# Altium integrated library UAV.IntLib: 42 symbols (part 3 of 4)
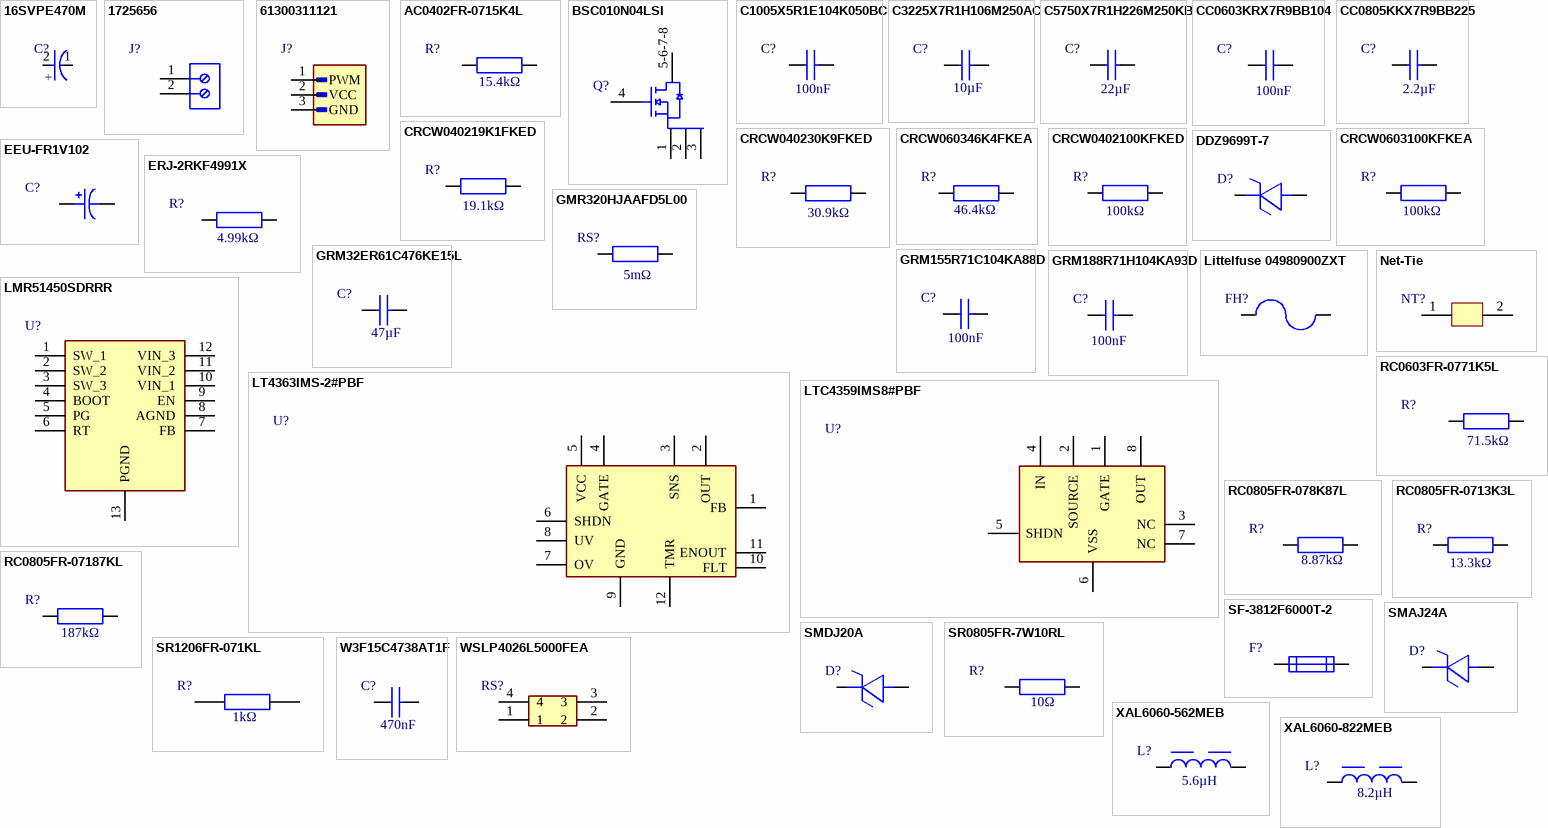
[diagram p3: symbols 16SVPE470M to XAL6060-822MEB]

## ERJ-2RKF4991X
designator R?  value 4.99kΩ  (hidden comment: ERJ-2RKF4991X)
Res Thick Film 0402 4.99K Ohm 1% 0.1W(1/10W) ±100ppm/C Pad SMD Automotive T/R; Manufacturer: Panasonic; Manufacturer Part Number: ERJ2RKF4991X; Manufacturer Lifecycle Status: ACTIVE; Part Series: Precision Thick Film Chip Resistors; Max Power Dissipation: 100mW; Temperature Coefficient: 100ppm/°C; Voltage Rating: 50V; Supplier: Farnell; Supplier Part Number: ERJ2RKF4991X; RoHS: Compliant; Category: Chip SMD Resistors; Stock: 140569; Pricing: 10=0,0178, 100=0,0146, 500=0,0095, 2500=0,0084, 5000=0,0074 (EUR); Case/Package: 0402; Case Code (Imperial): 0402; China RoHS: Non-Compliant; Composition: Thick Film; Contact Plating: Tin; Country of Origin: Japan, Mainland China; Depth: 500µm; Export Control Classification Number (ECCN) Code: EAR99; Features: Automotive AEC-Q200; Height: 350µm; Harmonized Tariff Schedule (HTS) Code: 8533.21.00.30; Introduction Date: 2004-02-02; Lead Free: Lead Free; Length: 1mm; Lifecycle Status: Production; Max Operating Temperature: 155°C; Military Standard: Not; Min Operating Temperature: -55°C; Mounting Technology: Surface Mount; Pins: 2; Number of Terminals: 2; Number of Terminations: 2; Packaging: Cut Tape; Power Rating: 100mW; Radiation Hardening: No; Ratings: AEC-Q200; REACH SVHC: Yes; Schedule B: 8533210045, 8533210045|8533210045|8533210045|8533210045|8533210045; Termination: SMD/SMT; Tolerance: 1%; Voltage Rating (DC): 50V; Weight: 793.786648µg; Width: 500µm; Working Voltage: 50V; ComponentLink1URL: https://sigma.octopart.com:443/138766958/technical_drawing/Panasonic-ERJ-2RKF4991X.pdf?src-supplier=Upverter; ComponentLink1Description: https://sigma.octopart.com:443/138766958/technical_drawing/Panasonic-ERJ-2RKF4991X.pdf?src-supplier=Upverter; ComponentLink2URL: https://datasheet.octopart.com:443/ERJ2RKF4991X-Panasonic-datasheet-82288794.pdf?src-supplier=Upverter; ComponentLink2Description: https://datasheet.octopart.com:443/ERJ2RKF4991X-Panasonic-datasheet-82288794.pdf?src-supplier=Upverter; ComponentLink3URL: https://datasheet.octopart.com:443/ERJ2RKF4991X-Panasonic-datasheet-13266541.pdf?src-supplier=RS+(Formerly+Allied+Electronics); ComponentLink3Description: https://datasheet.octopart.com:443/ERJ2RKF4991X-Panasonic-datasheet-13266541.pdf?src-supplier=RS+(Formerly+Allied+Electronics); ComponentLink4URL: https://datasheet.octopart.com:443/ERJ2RKF4991X-Panasonic-datasheet-48891056.pdf?src-supplier=Newark; ComponentLink4Description: https://datasheet.octopart.com:443/ERJ2RKF4991X-Panasonic-datasheet-48891056.pdf?src-supplier=Newark; ComponentLink5URL: https://datasheet.octopart.com:443/ERJ2RKF4991X-Panasonic-datasheet-136608610.pdf?src-supplier=Newark; ComponentLink5Description: https://datasheet.octopart.com:443/ERJ2RKF4991X-Panasonic-datasheet-136608610.pdf?src-supplier=Newark; ComponentLink6URL: https://datasheet.octopart.com:443/ERJ2RKF4991X-Panasonic-datasheet-10025800.pdf?src-supplier=Future+Electronics; ComponentLink6Description: https://datasheet.octopart.com:443/ERJ2RKF4991X-Panasonic-datasheet-10025800.pdf?src-supplier=Future+Electronics; ComponentLink7URL: https://datasheet.octopart.com:443/ERJ2RKF4991X-Panasonic-datasheet-8853621.pdf?src-supplier=Future+Electronics; ComponentLink7Description: https://datasheet.octopart.com:443/ERJ2RKF4991X-Panasonic-datasheet-8853621.pdf?src-supplier=Future+Electronics; ComponentLink8URL: https://datasheet.octopart.com:443/ERJ2RKF4991X-Panasonic-datasheet-5313456.pdf?src-supplier=Future+Electronics; ComponentLink8Description: https://datasheet.octopart.com:443/ERJ2RKF4991X-Panasonic-datasheet-5313456.pdf?src-supplier=Future+Electronics; ComponentLink9URL: https://datasheet.octopart.com:443/ERJ-2RKF4991X-Panasonic-datasheet-154766169.pdf?src-supplier=Master+Electronics; ComponentLink9Description: https://datasheet.octopart.com:443/ERJ-2RKF4991X-Panasonic-datasheet-154766169.pdf?src-supplier=Master+Electronics; ComponentLink10URL: https://datasheet.octopart.com:443/ERJ2RKF4991X-Panasonic-datasheet-188592431.pdf?src-supplier=TME; ComponentLink10Description: https://datasheet.octopart.com:443/ERJ2RKF4991X-Panasonic-datasheet-188592431.pdf?src-supplier=TME; ComponentLink11URL: https://datasheet.octopart.com:443/ERJ2RKF4991X-Panasonic-datasheet-164353789.pdf?src-supplier=TME; ComponentLink11Description: https://datasheet.octopart.com:443/ERJ2RKF4991X-Panasonic-datasheet-164353789.pdf?src-supplier=TME; ComponentLink12URL: https://datasheet.octopart.com/ERJ2RKF4991X-Panasonic-datasheet-78375410.pdf; ComponentLink12Description: https://datasheet.octopart.com/ERJ2RKF4991X-Panasonic-datasheet-78375410.pdf; ComponentLink13URL: https://datasheet.octopart.com/Precision-Thick-Film-Chip-Resistors-Panasonic-datasheet-family-106.pdf; ComponentLink13Description: https://datasheet.octopart.com/Precision-Thick-Film-Chip-Resistors-Panasonic-datasheet-family-106.pdf; ComponentLink14URL: https://datasheet.octopart.com:443/ERJ-2RKF4991X-Panasonic---ECG-datasheet-15994758.pdf?src-supplier=Farnell; ComponentLink14Description: https://datasheet.octopart.com:443/ERJ-2RKF4991X-Panasonic---ECG-datasheet-15994758.pdf?src-supplier=Farnell; ComponentLink15URL: https://datasheet.octopart.com:443/ERJ-2RKF4991X-Panasonic-datasheet-11542829.pdf?src-supplier=Arrow+Electronics; ComponentLink15Description: https://datasheet.octopart.com:443/ERJ-2RKF4991X-Panasonic-datasheet-11542829.pdf?src-supplier=Arrow+Electronics; ComponentLink16URL: https://datasheet.octopart.com:443/ERJ-2RKF4991X-Panasonic-datasheet-118621.pdf?src-supplier=DigiKey; ComponentLink16Description: https://datasheet.octopart.com:443/ERJ-2RKF4991X-Panasonic-datasheet-118621.pdf?src-supplier=DigiKey; ComponentLink17URL: https://datasheet.octopart.com:443/ERJ-2RKF4991X-Panasonic-datasheet-41391857.pdf?src-supplier=Electro+Sonic; ComponentLink17Description: https://datasheet.octopart.com:443/ERJ-2RKF4991X-Panasonic-datasheet-41391857.pdf?src-supplier=Electro+Sonic
footprint RES 0402
pins: 1, 2

## GMR320HJAAFD5L00
designator RS?  value 5mΩ  (hidden comment: GMR320HJAAFD5L00)
Res Metal Plate 2817 0.005 Ohm 1% 7W 0ppm/C to 25ppm/C Pad SMD Automotive T/R; Manufacturer: ROHM; Power Rating: 10W; Ratings: AEC-Q200, IATF 16949; Temperature Coefficient: 25ppm/°C; Supplier: Arrow Electronics; Supplier Part Number: GMR320HJAAFD5L00; Manufacturer Part Number: GMR320HJAAFD5L00; RoHS: Compliant; Category: Chip SMD Resistors; Stock: 400; Pricing: 1=3,6047, 10=2,4242, 25=2,1032, 50=1,9022, 100=1,731, 250=1,5438 (USD); China RoHS: Non-Compliant; Export Control Classification Number (ECCN) Code: EAR99; Height: 400µm; Harmonized Tariff Schedule (HTS) Code: 8533.21.00.30; Introduction Date: 2020-02-06; Length: 7.1mm; Lifecycle Status: Production; Max Operating Temperature: 170°C; Min Operating Temperature: -65°C; Mounting Technology: Surface Mount; Number of Terminals: 2; REACH SVHC: Yes; Tolerance: 1%; Width: 4.2mm; ComponentLink1URL: https://datasheet.octopart.com:443/GMR320HJAAFD5L00-ROHM-datasheet-182147625.pdf?src-supplier=IHS; ComponentLink1Description: https://datasheet.octopart.com:443/GMR320HJAAFD5L00-ROHM-datasheet-182147625.pdf?src-supplier=IHS
footprint GMR320HJAAFD5L00
pins: 1, 2

## GRM32ER61C476KE15L
designator C?  value 47µF  (hidden comment: GRM32ER61C476KE15L)
16V 47uF X5R ±10% 1210 Multilayer Ceramic Capacitors MLCC - SMD/SMT ROHS; Manufacturer: Murata; Manufacturer Lifecycle Status: NRND; Manufacturer Package Identifier: 1210 (3225 Metric); Supplier: Future Electronics; Supplier Part Number: GRM32ER61C476KE15L; Manufacturer Part Number: GRM32ER61C476KE15L; RoHS: Compliant; Category: Ceramic Capacitors; Stock: 188000; Pricing: 1000=0,0948, 3000=0,0921, 4000=0,0914, 10000=0,0893, 15000=0,0872 (USD); Case/Package: 1210; Case Code (Imperial): 1210; Case Code (Metric): 3225; Depth: 2.5mm; Dielectric: X5R; Dielectric Material: Ceramic; Height: 2.5mm; Lead Free: Lead Free; Length: 3.2mm; Lifecycle Status: NRND; Material: Ceramic; Max Operating Temperature: 85°C; Min Operating Temperature: -55°C; Mounting Technology: Surface Mount; Pins: 2; Number of Terminals: 2; Radiation Hardening: No; REACH SVHC: Yes; Schedule B: 8532240020, 8532240020|8532240020, 8532240020|8532240020|8532240020, 8532240020|8532240020|8532240020|8532240020; Termination: SMD/SMT; Thickness: 2.5mm; Tolerance: 10%; Voltage: 16V; Voltage Rating: 16V; Voltage Rating (DC): 16V; Width: 2.5mm; ComponentLink1URL: https://datasheet.octopart.com:443/GRM32ER61C476KE15L-Murata-datasheet-11893327.pdf?src-supplier=_legacy+Avnet; ComponentLink1Description: https://datasheet.octopart.com:443/GRM32ER61C476KE15L-Murata-datasheet-11893327.pdf?src-supplier=_legacy+Avnet; ComponentLink2URL: https://datasheet.octopart.com:443/GRM32ER61C476KE15L-Murata-datasheet-62317406.pdf?src-supplier=element14+APAC; ComponentLink2Description: https://datasheet.octopart.com:443/GRM32ER61C476KE15L-Murata-datasheet-62317406.pdf?src-supplier=element14+APAC; ComponentLink3URL: https://datasheet.octopart.com:443/GRM32ER61C476KE15L-Murata-datasheet-17853190.pdf?src-supplier=element14+APAC; ComponentLink3Description: https://datasheet.octopart.com:443/GRM32ER61C476KE15L-Murata-datasheet-17853190.pdf?src-supplier=element14+APAC; ComponentLink4URL: https://datasheet.octopart.com:443/GRM32ER61C476KE15L-Murata-datasheet-8817987.pdf?src-supplier=Newark; ComponentLink4Description: https://datasheet.octopart.com:443/GRM32ER61C476KE15L-Murata-datasheet-8817987.pdf?src-supplier=Newark; ComponentLink5URL: https://datasheet.octopart.com:443/GRM32ER61C476KE15L-Murata-datasheet-14403028.pdf?src-supplier=Future+Electronics; ComponentLink5Description: https://datasheet.octopart.com:443/GRM32ER61C476KE15L-Murata-datasheet-14403028.pdf?src-supplier=Future+Electronics; ComponentLink6URL: https://datasheet.octopart.com:443/GRM32ER61C476KE15L-Murata-datasheet-22122223.pdf?src-supplier=Future+Electronics; ComponentLink6Description: https://datasheet.octopart.com:443/GRM32ER61C476KE15L-Murata-datasheet-22122223.pdf?src-supplier=Future+Electronics; ComponentLink7URL: https://datasheet.octopart.com:443/GRM32ER61C476KE15L-Murata-datasheet-44109711.pdf?src-supplier=Future+Electronics; ComponentLink7Description: https://datasheet.octopart.com:443/GRM32ER61C476KE15L-Murata-datasheet-44109711.pdf?src-supplier=Future+Electronics; ComponentLink8URL: https://datasheet.octopart.com:443/GRM32ER61C476KE15L-Murata-datasheet-165579666.pdf?src-supplier=TME; ComponentLink8Description: https://datasheet.octopart.com:443/GRM32ER61C476KE15L-Murata-datasheet-165579666.pdf?src-supplier=TME; ComponentLink9URL: https://datasheet.octopart.com:443/GRM32ER61C476KE15L-Murata-datasheet-59876780.pdf?src-supplier=TME; ComponentLink9Description: https://datasheet.octopart.com:443/GRM32ER61C476KE15L-Murata-datasheet-59876780.pdf?src-supplier=TME; ComponentLink10URL: https://datasheet.octopart.com:443/GRM32ER61C476KE15L-Murata-datasheet-140709622.pdf?src-supplier=Ciiva; ComponentLink10Description: https://datasheet.octopart.com:443/GRM32ER61C476KE15L-Murata-datasheet-140709622.pdf?src-supplier=Ciiva; ComponentLink11URL: https://datasheet.octopart.com:443/GRM32ER61C476KE15L-Murata-datasheet-138747025.pdf?src-supplier=Ciiva; ComponentLink11Description: https://datasheet.octopart.com:443/GRM32ER61C476KE15L-Murata-datasheet-138747025.pdf?src-supplier=Ciiva; ComponentLink12URL: https://datasheet.octopart.com:443/GRM32ER61C476KE15L-Murata-datasheet-102370999.pdf?src-supplier=HQonline; ComponentLink12Description: https://datasheet.octopart.com:443/GRM32ER61C476KE15L-Murata-datasheet-102370999.pdf?src-supplier=HQonline; ComponentLink13URL: https://datasheet.octopart.com:443/GRM32ER61C476KE15L-Murata-datasheet-14047368.pdf?src-supplier=iiiC; ComponentLink13Description: https://datasheet.octopart.com:443/GRM32ER61C476KE15L-Murata-datasheet-14047368.pdf?src-supplier=iiiC; ComponentLink14URL: https://datasheet.octopart.com/GRM32ER61C476KE15L-Murata-datasheet-12515295.pdf; ComponentLink14Description: https://datasheet.octopart.com/GRM32ER61C476KE15L-Murata-datasheet-12515295.pdf; ComponentLink15URL: https://datasheet.octopart.com/GRM32ER61C476KE15L-Murata-datasheet-12510076.pdf; ComponentLink15Description: https://datasheet.octopart.com/GRM32ER61C476KE15L-Murata-datasheet-12510076.pdf; ComponentLink16URL: https://datasheet.octopart.com/GRM32ER61C476KE15L-Murata-datasheet-11978611.pdf; ComponentLink16Description: https://datasheet.octopart.com/GRM32ER61C476KE15L-Murata-datasheet-11978611.pdf; ComponentLink17URL: https://datasheet.octopart.com/GRM32ER61C476KE15L-Murata-datasheet-10025737.pdf; ComponentLink17Description: https://datasheet.octopart.com/GRM32ER61C476KE15L-Murata-datasheet-10025737.pdf; ComponentLink18URL: https://datasheet.octopart.com/GRM32ER61C476KE15L-Murata-datasheet-8819587.pdf; ComponentLink18Description: https://datasheet.octopart.com/GRM32ER61C476KE15L-Murata-datasheet-8819587.pdf; ComponentLink19URL: https://datasheet.octopart.com:443/GRM32ER61C476KE15L.-Murata-datasheet-5332913.pdf?src-supplier=Farnell; ComponentLink19Description: https://datasheet.octopart.com:443/GRM32ER61C476KE15L.-Murata-datasheet-5332913.pdf?src-supplier=Farnell; ComponentLink20URL: http://sigma.octopart.com:80/reach_statement/Murata-company-16.pdf?src-supplier=Compliance+Statements; ComponentLink20Description: http://sigma.octopart.com:80/reach_statement/Murata-company-16.pdf?src-supplier=Compliance+Statements
footprint CAP 1210
pins: 1, 2

## GRM155R71C104KA88D
designator C?  value 100nF  (hidden comment: GRM155R71C104KA88D)
16V 100nF X7R ±10% 0402 Multilayer Ceramic Capacitors MLCC - SMD/SMT ROHS; Manufacturer: Murata; Manufacturer Lifecycle Status: NRND; Insulation Resistance: 10GΩ; Supplier: Future Electronics; Supplier Part Number: GRM155R71C104KA88D; Manufacturer Part Number: GRM155R71C104KA88D; RoHS: Compliant; Category: Ceramic Capacitors; Stock: 9240000; Pricing: 20000=0,001, 50000=0,001, 200000=0,0009, 500000=0,0009, 1250000=0,0009 (USD); Case/Package: 0402; Case Code (Imperial): 0402; Case Code (Metric): 1005; Country of Origin: Japan, Mainland China, Philippines, Singapore, Thailand; Depth: 500µm; Dielectric: X7R; Dielectric Material: Ceramic; Export Control Classification Number (ECCN) Code: EAR99; Height: 500µm; Harmonized Tariff Schedule (HTS) Code: 8532.24.00.20; Introduction Date: 2004-11-19; Lead Free: Lead Free; Length: 1mm; Lifecycle Status: NRND; Material: Ceramic; Max Operating Temperature: 125°C; Min Operating Temperature: -55°C; Mounting Technology: Surface Mount; Pins: 2; Number of Terminals: 2; Packaging: Cut Tape; Radiation Hardening: No; REACH SVHC: Yes; Schedule B: 8532240020, 8532240020|8532240020|8532240020|8532240020|8532240020|8532240020|8532240020|8532240020|8532240020|8532240020|8532240020|8532240020|8532240020, 8532240020|8532240020|8532240020|8532240020|8532240020|8532240020|8532240020|8532240020|8532240020|8532240020|8532240020|8532240020|8532240020|8532240020, 8532240020|8532240020|8532240020|8532240020|8532240020|8532240020|8532240020|8532240020|8532240020|8532240020|8532240020|8532240020|8532240020|8532240020|8532240020; Termination: SMD/SMT; Thickness: 500µm; Tolerance: 10%; Voltage: 16V; Voltage Rating: 16V; Voltage Rating (DC): 16V; Width: 500µm; ComponentLink1URL: https://datasheet.octopart.com:443/GRM155R71C104KA88D-Murata-datasheet-6387203.pdf?src-supplier=Upverter; ComponentLink1Description: https://datasheet.octopart.com:443/GRM155R71C104KA88D-Murata-datasheet-6387203.pdf?src-supplier=Upverter; ComponentLink2URL: https://datasheet.octopart.com:443/GRM155R71C104KA88D-Murata-datasheet-501912.pdf?src-supplier=Farnell; ComponentLink2Description: https://datasheet.octopart.com:443/GRM155R71C104KA88D-Murata-datasheet-501912.pdf?src-supplier=Farnell; ComponentLink3URL: https://datasheet.octopart.com:443/GRM155R71C104KA88D-Murata-datasheet-62320226.pdf?src-supplier=Farnell; ComponentLink3Description: https://datasheet.octopart.com:443/GRM155R71C104KA88D-Murata-datasheet-62320226.pdf?src-supplier=Farnell; ComponentLink4URL: https://datasheet.octopart.com:443/GRM155R71C104KA88D-Murata-datasheet-514334.pdf?src-supplier=Farnell; ComponentLink4Description: https://datasheet.octopart.com:443/GRM155R71C104KA88D-Murata-datasheet-514334.pdf?src-supplier=Farnell; ComponentLink5URL: https://datasheet.octopart.com:443/GRM155R71C104KA88D-Murata-datasheet-165579666.pdf?src-supplier=TME; ComponentLink5Description: https://datasheet.octopart.com:443/GRM155R71C104KA88D-Murata-datasheet-165579666.pdf?src-supplier=TME; ComponentLink6URL: https://datasheet.octopart.com:443/GRM155R71C104KA88D-Murata-datasheet-81455578.pdf?src-supplier=TME; ComponentLink6Description: https://datasheet.octopart.com:443/GRM155R71C104KA88D-Murata-datasheet-81455578.pdf?src-supplier=TME; ComponentLink7URL: https://datasheet.octopart.com:443/GRM155R71C104KA88D-Murata-datasheet-59876780.pdf?src-supplier=TME; ComponentLink7Description: https://datasheet.octopart.com:443/GRM155R71C104KA88D-Murata-datasheet-59876780.pdf?src-supplier=TME; ComponentLink8URL: https://datasheet.octopart.com:443/GRM155R71C104KA88D-Murata-datasheet-141266224.pdf?src-supplier=Ciiva; ComponentLink8Description: https://datasheet.octopart.com:443/GRM155R71C104KA88D-Murata-datasheet-141266224.pdf?src-supplier=Ciiva; ComponentLink9URL: https://datasheet.octopart.com:443/GRM155R71C104KA88D-Murata-datasheet-140690972.pdf?src-supplier=Ciiva; ComponentLink9Description: https://datasheet.octopart.com:443/GRM155R71C104KA88D-Murata-datasheet-140690972.pdf?src-supplier=Ciiva; ComponentLink10URL: https://datasheet.octopart.com:443/GRM155R71C104KA88D-Murata-datasheet-138740890.pdf?src-supplier=Ciiva; ComponentLink10Description: https://datasheet.octopart.com:443/GRM155R71C104KA88D-Murata-datasheet-138740890.pdf?src-supplier=Ciiva; ComponentLink11URL: https://datasheet.octopart.com:443/GRM155R71C104KA88D-Murata-datasheet-120101189.pdf?src-supplier=Megastar; ComponentLink11Description: https://datasheet.octopart.com:443/GRM155R71C104KA88D-Murata-datasheet-120101189.pdf?src-supplier=Megastar; ComponentLink12URL: https://datasheet.octopart.com:443/GRM155R71C104KA88D-Murata-datasheet-96971104.pdf?src-supplier=Future+Electronics; ComponentLink12Description: https://datasheet.octopart.com:443/GRM155R71C104KA88D-Murata-datasheet-96971104.pdf?src-supplier=Future+Electronics; ComponentLink13URL: https://datasheet.octopart.com:443/GRM155R71C104KA88D-Murata-datasheet-22122223.pdf?src-supplier=Future+Electronics; ComponentLink13Description: https://datasheet.octopart.com:443/GRM155R71C104KA88D-Murata-datasheet-22122223.pdf?src-supplier=Future+Electronics; ComponentLink14URL: https://datasheet.octopart.com:443/GRM155R71C104KA88D-Murata-datasheet-14400564.pdf?src-supplier=Future+Electronics; ComponentLink14Description: https://datasheet.octopart.com:443/GRM155R71C104KA88D-Murata-datasheet-14400564.pdf?src-supplier=Future+Electronics; ComponentLink15URL: https://datasheet.octopart.com:443/GRM155R71C104KA88D-Murata-datasheet-44106293.pdf?src-supplier=Future+Electronics; ComponentLink15Description: https://datasheet.octopart.com:443/GRM155R71C104KA88D-Murata-datasheet-44106293.pdf?src-supplier=Future+Electronics; ComponentLink16URL: https://datasheet.octopart.com/GRM155R71C104KA88D-Murata-datasheet-12515295.pdf; ComponentLink16Description: https://datasheet.octopart.com/GRM155R71C104KA88D-Murata-datasheet-12515295.pdf; ComponentLink17URL: https://datasheet.octopart.com/GRM155R71C104KA88D-Murata-datasheet-12510076.pdf; ComponentLink17Description: https://datasheet.octopart.com/GRM155R71C104KA88D-Murata-datasheet-12510076.pdf; ComponentLink18URL: https://datasheet.octopart.com/GRM155R71C104KA88D-Murata-datasheet-11978611.pdf; ComponentLink18Description: https://datasheet.octopart.com/GRM155R71C104KA88D-Murata-datasheet-11978611.pdf; ComponentLink19URL: https://datasheet.octopart.com/GRM155R71C104KA88D-Murata-datasheet-10025737.pdf; ComponentLink19Description: https://datasheet.octopart.com/GRM155R71C104KA88D-Murata-datasheet-10025737.pdf; ComponentLink20URL: https://datasheet.octopart.com/GRM155R71C104KA88D-Murata-datasheet-8819587.pdf; ComponentLink20Description: https://datasheet.octopart.com/GRM155R71C104KA88D-Murata-datasheet-8819587.pdf; ComponentLink21URL: https://datasheet.octopart.com/GRM155R71C104KA88D-Murata-datasheet-12555248.pdf; ComponentLink21Description: https://datasheet.octopart.com/GRM155R71C104KA88D-Murata-datasheet-12555248.pdf; ComponentLink22URL: https://datasheet.octopart.com:443/GRM155R71C104KA88D-Murata-datasheet-11864723.pdf?src-supplier=Arrow+Electronics; ComponentLink22Description: https://datasheet.octopart.com:443/GRM155R71C104KA88D-Murata-datasheet-11864723.pdf?src-supplier=Arrow+Electronics; ComponentLink23URL: https://datasheet.octopart.com:443/GRM155R71C104KA88D-Murata-datasheet-148211.pdf?src-supplier=Garrett; ComponentLink23Description: https://datasheet.octopart.com:443/GRM155R71C104KA88D-Murata-datasheet-148211.pdf?src-supplier=Garrett; ComponentLink24URL: https://datasheet.octopart.com:443/GRM155R71C104KA88D-Murata-datasheet-118811.pdf?src-supplier=DigiKey; ComponentLink24Description: https://datasheet.octopart.com:443/GRM155R71C104KA88D-Murata-datasheet-118811.pdf?src-supplier=DigiKey; ComponentLink25URL: https://datasheet.octopart.com:443/GRM155R71C104KA88D-Murata-datasheet-38265814.pdf?src-supplier=Newark; ComponentLink25Description: https://datasheet.octopart.com:443/GRM155R71C104KA88D-Murata-datasheet-38265814.pdf?src-supplier=Newark; ComponentLink26URL: http://sigma.octopart.com:80/reach_statement/Murata-company-16.pdf?src-supplier=Compliance+Statements; ComponentLink26Description: http://sigma.octopart.com:80/reach_statement/Murata-company-16.pdf?src-supplier=Compliance+Statements
footprint CAP 0402
pins: 1, 2

## GRM188R71H104KA93D
designator C?  value 100nF  (hidden comment: GRM188R71H104KA93D)
Multilayer Ceramic Capacitors MLCC Surface Mount 0603 0.1uF 50 Volts X7R 10%; Manufacturer: Murata; Manufacturer Lifecycle Status: TO BE DISCONTINUED; Insulation Resistance: 10GΩ; Voltage: 50V; Supplier: Farnell; Supplier Part Number: GRM188R71H104KA93D; Manufacturer Part Number: GRM188R71H104KA93D; RoHS: Compliant; Category: Ceramic Capacitors; Stock: 13958; Pricing: 10=0,0157, 100=0,0148, 500=0,0139, 1000=0,0114, 2000=0,0104, 4000=0,0082 (EUR); Case/Package: 0603; Case Code (Imperial): 0603; Case Code (Metric): 1608; Contact Plating: Tin; Country of Origin: Philippines; Depth: 800µm; Dielectric: X7R; Dielectric Material: Ceramic; Export Control Classification Number (ECCN) Code: EAR99; Height: 800µm; Harmonized Tariff Schedule (HTS) Code: 8532.24.00.20; Introduction Date: 2004-11-19; Lead Free: Lead Free; Length: 1.6mm; Lifecycle Status: EOL; LTB Date: 2019-03-31; LTD Date: 2020-03-31; Material: Ceramic; Max Operating Temperature: 125°C; Min Operating Temperature: -55°C; Mounting Technology: Surface Mount; Pins: 2; Number of Terminals: 2; Packaging: Cut Tape; Radiation Hardening: No; REACH SVHC: Yes; Termination: SMD/SMT; Thickness: 800µm; Tolerance: 10%; Voltage Rating: 50V; Voltage Rating (DC): 50V; Width: 800µm; ComponentLink1URL: https://datasheet.octopart.com:443/GRM188R71H104KA93D-Murata-datasheet-8107223.pdf?src-supplier=_legacy+Avnet; ComponentLink1Description: https://datasheet.octopart.com:443/GRM188R71H104KA93D-Murata-datasheet-8107223.pdf?src-supplier=_legacy+Avnet; ComponentLink2URL: https://datasheet.octopart.com:443/GRM188R71H104KA93D-Murata-datasheet-501912.pdf?src-supplier=Farnell; ComponentLink2Description: https://datasheet.octopart.com:443/GRM188R71H104KA93D-Murata-datasheet-501912.pdf?src-supplier=Farnell; ComponentLink3URL: https://datasheet.octopart.com:443/GRM188R71H104KA93D-Murata-datasheet-62320240.pdf?src-supplier=Farnell; ComponentLink3Description: https://datasheet.octopart.com:443/GRM188R71H104KA93D-Murata-datasheet-62320240.pdf?src-supplier=Farnell; ComponentLink4URL: https://datasheet.octopart.com:443/GRM188R71H104KA93D-Murata-datasheet-514334.pdf?src-supplier=Farnell; ComponentLink4Description: https://datasheet.octopart.com:443/GRM188R71H104KA93D-Murata-datasheet-514334.pdf?src-supplier=Farnell; ComponentLink5URL: https://datasheet.octopart.com:443/GRM188R71H104KA93D-Murata-datasheet-165579666.pdf?src-supplier=TME; ComponentLink5Description: https://datasheet.octopart.com:443/GRM188R71H104KA93D-Murata-datasheet-165579666.pdf?src-supplier=TME; ComponentLink6URL: https://datasheet.octopart.com:443/GRM188R71H104KA93D-Murata-datasheet-59876780.pdf?src-supplier=TME; ComponentLink6Description: https://datasheet.octopart.com:443/GRM188R71H104KA93D-Murata-datasheet-59876780.pdf?src-supplier=TME; ComponentLink7URL: https://datasheet.octopart.com:443/GRM188R71H104KA93D-Murata-datasheet-140705634.pdf?src-supplier=Ciiva; ComponentLink7Description: https://datasheet.octopart.com:443/GRM188R71H104KA93D-Murata-datasheet-140705634.pdf?src-supplier=Ciiva; ComponentLink8URL: https://datasheet.octopart.com:443/GRM188R71H104KA93D-Murata-datasheet-138743176.pdf?src-supplier=Ciiva; ComponentLink8Description: https://datasheet.octopart.com:443/GRM188R71H104KA93D-Murata-datasheet-138743176.pdf?src-supplier=Ciiva; ComponentLink9URL: https://datasheet.octopart.com:443/GRM188R71H104KA93D-Murata-datasheet-22122223.pdf?src-supplier=Future+Electronics; ComponentLink9Description: https://datasheet.octopart.com:443/GRM188R71H104KA93D-Murata-datasheet-22122223.pdf?src-supplier=Future+Electronics; ComponentLink10URL: https://datasheet.octopart.com:443/GRM188R71H104KA93D-Murata-datasheet-14401171.pdf?src-supplier=Future+Electronics; ComponentLink10Description: https://datasheet.octopart.com:443/GRM188R71H104KA93D-Murata-datasheet-14401171.pdf?src-supplier=Future+Electronics; ComponentLink11URL: https://datasheet.octopart.com:443/GRM188R71H104KA93D-Murata-datasheet-44107904.pdf?src-supplier=Future+Electronics; ComponentLink11Description: https://datasheet.octopart.com:443/GRM188R71H104KA93D-Murata-datasheet-44107904.pdf?src-supplier=Future+Electronics; ComponentLink12URL: https://datasheet.octopart.com/GRM188R71H104KA93D-Murata-datasheet-12515295.pdf; ComponentLink12Description: https://datasheet.octopart.com/GRM188R71H104KA93D-Murata-datasheet-12515295.pdf; ComponentLink13URL: https://datasheet.octopart.com/GRM188R71H104KA93D-Murata-datasheet-12510076.pdf; ComponentLink13Description: https://datasheet.octopart.com/GRM188R71H104KA93D-Murata-datasheet-12510076.pdf; ComponentLink14URL: https://datasheet.octopart.com/GRM188R71H104KA93D-Murata-datasheet-11978611.pdf; ComponentLink14Description: https://datasheet.octopart.com/GRM188R71H104KA93D-Murata-datasheet-11978611.pdf; ComponentLink15URL: https://datasheet.octopart.com/GRM188R71H104KA93D-Murata-datasheet-10025737.pdf; ComponentLink15Description: https://datasheet.octopart.com/GRM188R71H104KA93D-Murata-datasheet-10025737.pdf; ComponentLink16URL: https://datasheet.octopart.com/GRM188R71H104KA93D-Murata-datasheet-8819587.pdf; ComponentLink16Description: https://datasheet.octopart.com/GRM188R71H104KA93D-Murata-datasheet-8819587.pdf; ComponentLink17URL: https://datasheet.octopart.com/GRM188R71H104KA93D-Murata-datasheet-14397339.pdf; ComponentLink17Description: https://datasheet.octopart.com/GRM188R71H104KA93D-Murata-datasheet-14397339.pdf; ComponentLink18URL: https://datasheet.octopart.com:443/GRM188R71H104KA93D-Murata-datasheet-11795521.pdf?src-supplier=Arrow+Electronics; ComponentLink18Description: https://datasheet.octopart.com:443/GRM188R71H104KA93D-Murata-datasheet-11795521.pdf?src-supplier=Arrow+Electronics; ComponentLink19URL: https://datasheet.octopart.com:443/GRM188R71H104KA93D-Murata-datasheet-8221872.pdf?src-supplier=Jameco; ComponentLink19Description: https://datasheet.octopart.com:443/GRM188R71H104KA93D-Murata-datasheet-8221872.pdf?src-supplier=Jameco; ComponentLink20URL: https://datasheet.octopart.com:443/GRM188R71H104KA93D-Murata-datasheet-102.pdf?src-supplier=DigiKey; ComponentLink20Description: https://datasheet.octopart.com:443/GRM188R71H104KA93D-Murata-datasheet-102.pdf?src-supplier=DigiKey; ComponentLink21URL: https://datasheet.octopart.com:443/GRM188R71H104KA93D-Murata-datasheet-33006386.pdf?src-supplier=Newark; ComponentLink21Description: https://datasheet.octopart.com:443/GRM188R71H104KA93D-Murata-datasheet-33006386.pdf?src-supplier=Newark; ComponentLink22URL: http://sigma.octopart.com:80/reach_statement/Murata-company-16.pdf?src-supplier=Compliance+Statements; ComponentLink22Description: http://sigma.octopart.com:80/reach_statement/Murata-company-16.pdf?src-supplier=Compliance+Statements
footprint CAP 0603
pins: 1, 2

## Littelfuse 04980900ZXT
designator FH?  (value not drawn)
FUSE HLDR BLT DWN 32V 200A PANEL / Fuse Holder 200 A 32V 1 Circuit Bolt Down Panel Mount; Manufacturer Part Number: 0498100.M; Approvals: UL; Current Rating: 100A; Value: 450mΩ; Time to Trip: 100ms; Illumination Type: Illuminated; Number of Circuits: 1; Thread Size: M5; Supplier: Farnell; Supplier Part Number: 0498100.M; Manufacturer: Littelfuse; RoHS: Compliant; Category: Fuses; Stock: 660; Pricing: 1=3,3, 10=2,53, 25=2,31, 50=2,09, 100=1,93, 500=1,6, 1000=1,46 (EUR); Contact Material: Copper; Contact Plating: Tin; Depth: 12mm; Fuse Current: 100A; Height: 8.3mm; Lead Free: Lead Free; Length: 16mm; Lifecycle Status: Production; Max Operating Temperature: 125°C; Min Operating Temperature: -40°C; Mounting Technology: Bolt, Screw; Pins: 2; Packaging: Bulk; Radiation Hardening: No; REACH SVHC: Yes; Voltage Rating (DC): 32V; Width: 11.9888mm; Working Voltage: 32V; ComponentLink1URL: https://datasheet.octopart.com:443/0498100.M-Littelfuse-datasheet-178713037.pdf?src-supplier=IHS; ComponentLink1Description: https://datasheet.octopart.com:443/0498100.M-Littelfuse-datasheet-178713037.pdf?src-supplier=IHS; ComponentLink2URL: https://datasheet.octopart.com:443/0498100.M-Littelfuse-datasheet-44680.pdf?src-supplier=Farnell; ComponentLink2Description: https://datasheet.octopart.com:443/0498100.M-Littelfuse-datasheet-44680.pdf?src-supplier=Farnell; ComponentLink3URL: https://datasheet.octopart.com:443/0498100.M-Littelfuse-datasheet-178830475.pdf?src-supplier=Newark; ComponentLink3Description: https://datasheet.octopart.com:443/0498100.M-Littelfuse-datasheet-178830475.pdf?src-supplier=Newark; ComponentLink4URL: https://datasheet.octopart.com:443/0498100.M-Littelfuse-datasheet-25352789.pdf?src-supplier=HQonline; ComponentLink4Description: https://datasheet.octopart.com:443/0498100.M-Littelfuse-datasheet-25352789.pdf?src-supplier=HQonline; ComponentLink5URL: https://datasheet.octopart.com:443/0498100.M-Littelfuse-datasheet-150463555.pdf?src-supplier=RS+(Formerly+Allied+Electronics); ComponentLink5Description: https://datasheet.octopart.com:443/0498100.M-Littelfuse-datasheet-150463555.pdf?src-supplier=RS+(Formerly+Allied+Electronics); ComponentLink6URL: https://datasheet.octopart.com:443/0498100.M-Littelfuse-datasheet-177173888.pdf?src-supplier=Burklin+Elektronik; ComponentLink6Description: https://datasheet.octopart.com:443/0498100.M-Littelfuse-datasheet-177173888.pdf?src-supplier=Burklin+Elektronik; ComponentLink7URL: https://datasheet.octopart.com:443/0498100.M-Littelfuse-datasheet-11596521.pdf?src-supplier=Arrow+Electronics; ComponentLink7Description: https://datasheet.octopart.com:443/0498100.M-Littelfuse-datasheet-11596521.pdf?src-supplier=Arrow+Electronics; Case/Package: 200; Color: Black; Introduction Date: 2015-10-23; Number of Poles: 1; Voltage: 32V; Voltage Rating: 32V; Voltage Rating (AC): 32V; ComponentLink8URL: https://datasheet.octopart.com:443/04980900ZXT-Littelfuse-datasheet-57855645.pdf?src-supplier=HQonline; ComponentLink8Description: https://datasheet.octopart.com:443/04980900ZXT-Littelfuse-datasheet-57855645.pdf?src-supplier=HQonline; ComponentLink9URL: https://datasheet.octopart.com:443/04980900ZXT-Littelfuse-datasheet-8854283.pdf?src-supplier=TME; ComponentLink9Description: https://datasheet.octopart.com:443/04980900ZXT-Littelfuse-datasheet-8854283.pdf?src-supplier=TME; ComponentLink10URL: https://datasheet.octopart.com:443/04980900ZXT-Littelfuse-datasheet-41446440.pdf?src-supplier=Future+Electronics; ComponentLink10Description: https://datasheet.octopart.com:443/04980900ZXT-Littelfuse-datasheet-41446440.pdf?src-supplier=Future+Electronics; ComponentLink11URL: https://datasheet.octopart.com:443/04980900ZXT-Littelfuse-datasheet-183003514.pdf?src-supplier=JRH+Electronics; ComponentLink11Description: https://datasheet.octopart.com:443/04980900ZXT-Littelfuse-datasheet-183003514.pdf?src-supplier=JRH+Electronics; ComponentLink12URL: https://datasheet.octopart.com:443/04980900ZXT-Littelfuse-datasheet-11804369.pdf?src-supplier=Arrow+Electronics; ComponentLink12Description: https://datasheet.octopart.com:443/04980900ZXT-Littelfuse-datasheet-11804369.pdf?src-supplier=Arrow+Electronics; ComponentLink13URL: https://datasheet.octopart.com:443/04980900ZXT-Littelfuse-datasheet-83757.pdf?src-supplier=RS+(Formerly+Allied+Electronics); ComponentLink13Description: https://datasheet.octopart.com:443/04980900ZXT-Littelfuse-datasheet-83757.pdf?src-supplier=RS+(Formerly+Allied+Electronics)
footprint 04980900ZXT
pins: 1, 2

## LMR51450SDRRR
designator U?  (value not drawn)
36-V, 5-A synchronous buck converter 12-WSON -40 to 150; Manufacturer: Texas Instruments; Manufacturer Lifecycle Status: ACTIVE; Supplier: Mouser; Supplier Part Number: 595-LMR51450SDRRR; Manufacturer Part Number: LMR51450SDRRR; RoHS: Compliant; Category: Voltage Regulators - Switching; Stock: 10485; Pricing: 1=2,09, 10=1,55, 25=1,21, 50=1,41, 100=1,26, 250=1,02, 500=0,989, 1000=1,12, 3000=0,912, 6000=0,894, 10000=1,04 (USD); Height: 800µm; Length: 3mm; Lifecycle Status: Production; Pins: 12; Thickness: 750µm; Topology: Buck; Width: 3mm; ComponentLink1URL: https://sigma.octopart.com:443/176290362/technical_drawing/Texas-Instruments-LMR51450SDRRR.pdf?src-supplier=Texas+Instruments; ComponentLink1Description: https://sigma.octopart.com:443/176290362/technical_drawing/Texas-Instruments-LMR51450SDRRR.pdf?src-supplier=Texas+Instruments; ComponentLink2URL: https://octopart.com:443/opatz8j6/c1?t=oKmyWqts6puNCi1v3ksvyO_vfq3ggcIB7cLGQldxbuOVyJ2TFptYEr69Ct5zwwS27jB0eCEQmCCKAW0OQIoRJykQdN7zvcetqeBE4vcrznlT4iEwq70pGT65pQlL_vBuRAsQBYuHkuAKhQPqLjNJBAf_UHvlhvAI5V1vBDPE-GaOz1Aorf-oNHzVde5dNsY22KmRXwnkmrR3bIZCiYCZbAW_Puxd4cX9xxBVyl9CKGxvoLBhhxyPskgyHuRp_NXLSMzY3IgXJcNIpIVt4RSz7U2IMFHEbjpGuy9WrwBPQJ_4vp9lxeZTTlW2WL_vl-zPz7rsAhMOw4qcn51tjFlTHkeCOO4cweonyf1vxlmxISf1XW7c1fLTpz-Iaj6G-19_iAkAh8qPIg&src-supplier=Texas+Instruments; ComponentLink2Description: https://octopart.com:443/opatz8j6/c1?t=oKmyWqts6puNCi1v3ksvyO_vfq3ggcIB7cLGQldxbuOVyJ2TFptYEr69Ct5zwwS27jB0eCEQmCCKAW0OQIoRJykQdN7zvcetqeBE4vcrznlT4iEwq70pGT65pQlL_vBuRAsQBYuHkuAKhQPqLjNJBAf_UHvlhvAI5V1vBDPE-GaOz1Aorf-oNHzVde5dNsY22KmRXwnkmrR3bIZCiYCZbAW_Puxd4cX9xxBVyl9CKGxvoLBhhxyPskgyHuRp_NXLSMzY3IgXJcNIpIVt4RSz7U2IMFHEbjpGuy9WrwBPQJ_4vp9lxeZTTlW2WL_vl-zPz7rsAhMOw4qcn51tjFlTHkeCOO4cweonyf1vxlmxISf1XW7c1fLTpz-Iaj6G-19_iAkAh8qPIg&src-supplier=Texas+Instruments; ComponentLink3URL: https://datasheet.octopart.com:443/LMR51450SDRRR-Texas-Instruments-datasheet-168528357.pdf?src-supplier=HQonline; ComponentLink3Description: https://datasheet.octopart.com:443/LMR51450SDRRR-Texas-Instruments-datasheet-168528357.pdf?src-supplier=HQonline; ComponentLink4URL: http://sigma.octopart.com:80/reach_statement/Texas-Instruments-company-64.pdf?src-supplier=Compliance+Statements; ComponentLink4Description: http://sigma.octopart.com:80/reach_statement/Texas-Instruments-company-64.pdf?src-supplier=Compliance+Statements; ComponentLink5URL: http://sigma.octopart.com:80/conflict_mineral_statement/Texas-Instruments-company-63.pdf?src-supplier=Compliance+Statements; ComponentLink5Description: http://sigma.octopart.com:80/conflict_mineral_statement/Texas-Instruments-company-63.pdf?src-supplier=Compliance+Statements
footprint WSON -12 (LMR51450SDRRR)
pins: 1 SW_1, 2 SW_2, 3 SW_3, 4 BOOT, 5 PG, 6 RT, 7 FB, 8 AGND, 9 EN, 10 VIN_1, 11 VIN_2, 12 VIN_3, 13 PGND

## LT4363IMS-2#PBF
designator U?, comment LT4363  (value not drawn)
Circuit Protection Misc High Voltage Surge Stopper with Current Limit; Manufacturer: Analog Devices; Manufacturer Part Number: LT4363MPMS-1#TRPBF; Manufacturer Lifecycle Status: PRODUCTION; Clamping Voltage: 27V; Number of Circuits: 1; Working Voltage: 80V; Min Supply Voltage: 4V; Nominal Supply Voltage: 12V; Nominal Supply Current: 700µA; Supplier: Arrow Electronics; Supplier Part Number: LT4363MPMS-1#TRPBF; RoHS: Compliant; Category: Hot Swap Controllers; Pricing: 2500=13,8449 (USD); Lifecycle Status: Production; Pins: 12; Packaging: Tape and Reel; ComponentLink1URL: https://octopart.com:443/opatz8j6/c1?t=g8yZI-WwmnHB_vbMX34rM1w-FVIDuFRStvEBEGjv-t7dY-yn6edyVpvHiGWVwXk36mJtHaakebzYH0pbcDC9nAFzvMX55UE01VpBw0EvuzOYQuQyHVXSkEwA9UrcLhArsI8crRkas2E3x20SSd_j0bG3UdC2S3P2-55djwoCcbCa9x_vW4mWI6Pbbhes42ab_Mm48tbaz0AMQirVxpVGA3itoBnPvYNW2nXIrlFGQrOJUnHEnTZGMHqmHwXgR_Tlx3P7WXantRchJJux0Cl3oIBQ6pMTohaApkUOsGSDa4JuYPEXn45JWQ&src-supplier=Analog+Devices; ComponentLink1Description: https://octopart.com:443/opatz8j6/c1?t=g8yZI-WwmnHB_vbMX34rM1w-FVIDuFRStvEBEGjv-t7dY-yn6edyVpvHiGWVwXk36mJtHaakebzYH0pbcDC9nAFzvMX55UE01VpBw0EvuzOYQuQyHVXSkEwA9UrcLhArsI8crRkas2E3x20SSd_j0bG3UdC2S3P2-55djwoCcbCa9x_vW4mWI6Pbbhes42ab_Mm48tbaz0AMQirVxpVGA3itoBnPvYNW2nXIrlFGQrOJUnHEnTZGMHqmHwXgR_Tlx3P7WXantRchJJux0Cl3oIBQ6pMTohaApkUOsGSDa4JuYPEXn45JWQ&src-supplier=Analog+Devices; ComponentLink2URL: https://datasheet.octopart.com:443/LT4363MPMS-1%23TRPBF-Linear-Technology-datasheet-16808119.pdf?src-supplier=Upverter; ComponentLink2Description: https://datasheet.octopart.com:443/LT4363MPMS-1%23TRPBF-Linear-Technology-datasheet-16808119.pdf?src-supplier=Upverter; ComponentLink3URL: https://datasheet.octopart.com:443/LT4363MPMS-1%23TRPBF-Analog-Devices-datasheet-48003674.pdf?src-supplier=Newchip+Electronics+Limited; ComponentLink3Description: https://datasheet.octopart.com:443/LT4363MPMS-1%23TRPBF-Analog-Devices-datasheet-48003674.pdf?src-supplier=Newchip+Electronics+Limited; ComponentLink4URL: https://sigma.octopart.com:443/57695431/technical_drawing/Linear-Technology-LT4363MPMS-1%23TRPBF.pdf?src-supplier=Linear+Technology; ComponentLink4Description: https://sigma.octopart.com:443/57695431/technical_drawing/Linear-Technology-LT4363MPMS-1%23TRPBF.pdf?src-supplier=Linear+Technology; ComponentLink5URL: http://sigma.octopart.com:80/conflict_mineral_statement/Analog-Devices-company-33.pdf?src-supplier=Compliance+Statements; ComponentLink5Description: http://sigma.octopart.com:80/conflict_mineral_statement/Analog-Devices-company-33.pdf?src-supplier=Compliance+Statements; ComponentLink6URL: https://octopart.com:443/opatz8j6/c1?t=upX8bGaY0C_XhAgK0tvuE4KuG34pd1dqjCgMGSFl4A4VfJwnA-G2iPp1-_xl9tlvp47bIYjpGNIjJgQeIzPXlpvhsBRu-ZZqvMGXOy-0TvtKIjLrlnKqpwMA3gUbHz7op1PS0t33v5G0SwlTw0DW8UOb0qzWfk6qHP7B7oxV7v4SQDT7Kv3aFCYxemazye3958pU0imV6PXlzZXgUE6TdK9BZeuQDHDxv2Lx3eHIn183-cqc5tcQD9qR7x6H9J_DywiqtQ8guaVb2EPAcjERqDFoPchTgqXMyI2T8b-Hn7iuDHJnAWewLw&src-supplier=Compliance+Statements; ComponentLink6Description: https://octopart.com:443/opatz8j6/c1?t=upX8bGaY0C_XhAgK0tvuE4KuG34pd1dqjCgMGSFl4A4VfJwnA-G2iPp1-_xl9tlvp47bIYjpGNIjJgQeIzPXlpvhsBRu-ZZqvMGXOy-0TvtKIjLrlnKqpwMA3gUbHz7op1PS0t33v5G0SwlTw0DW8UOb0qzWfk6qHP7B7oxV7v4SQDT7Kv3aFCYxemazye3958pU0imV6PXlzZXgUE6TdK9BZeuQDHDxv2Lx3eHIn183-cqc5tcQD9qR7x6H9J_DywiqtQ8guaVb2EPAcjERqDFoPchTgqXMyI2T8b-Hn7iuDHJnAWewLw&src-supplier=Compliance+Statements; Stock: 74; Case/Package: MSOP; Height: 860µm; Lead Free: Lead Free; Length: 4.04mm; Max Operating Temperature: 85°C; Max Supply Voltage: 80V; Min Operating Temperature: -40°C; REACH SVHC: No; Schedule B: 8542390000, 8542390000|8542390000|8542390000|8542390000|8542390000; Width: 3mm; ComponentLink7URL: https://datasheet.octopart.com:443/LT4363IMS-2%23PBF-Analog-Devices-datasheet-16808119.pdf?src-supplier=Upverter; ComponentLink7Description: https://datasheet.octopart.com:443/LT4363IMS-2%23PBF-Analog-Devices-datasheet-16808119.pdf?src-supplier=Upverter; ComponentLink8URL: https://octopart.com:443/opatz8j6/c1?t=-IHcXZz8wf17Co3lJavFHjPk-jkjkbeE4FdSPYckKG-W26AH8QtQvgpVO8pSyIYJH4MIluO-quCPdq0IYsrL5xEJfkoWcv9ETdU4LRmwEu_QaNUHWW1x1p2NOujrI1czxFPuXzgNB89LoG9zMgWoaE8idJS3WKmYLS9sBBfM7ivdFLcJ03sPEP5W3TyyvmJEisV6tOozvhDCwz-NbNr_qWq7vIv3e2u2OtMyOZeqdy9MQ7VmyH1OnZ3GHaGImkjZNX9WHhXeQsYdpNQJx9v8Dd7EIeMeRmu2NjR7aH39sP_VGgL-3JzLxA&src-supplier=Analog+Devices; ComponentLink8Description: https://octopart.com:443/opatz8j6/c1?t=-IHcXZz8wf17Co3lJavFHjPk-jkjkbeE4FdSPYckKG-W26AH8QtQvgpVO8pSyIYJH4MIluO-quCPdq0IYsrL5xEJfkoWcv9ETdU4LRmwEu_QaNUHWW1x1p2NOujrI1czxFPuXzgNB89LoG9zMgWoaE8idJS3WKmYLS9sBBfM7ivdFLcJ03sPEP5W3TyyvmJEisV6tOozvhDCwz-NbNr_qWq7vIv3e2u2OtMyOZeqdy9MQ7VmyH1OnZ3GHaGImkjZNX9WHhXeQsYdpNQJx9v8Dd7EIeMeRmu2NjR7aH39sP_VGgL-3JzLxA&src-supplier=Analog+Devices; ComponentLink9URL: https://datasheet.octopart.com:443/LT4363IMS-2%23PBF-Analog-Devices-datasheet-157246151.pdf?src-supplier=Newchip+Electronics+Limited; ComponentLink9Description: https://datasheet.octopart.com:443/LT4363IMS-2%23PBF-Analog-Devices-datasheet-157246151.pdf?src-supplier=Newchip+Electronics+Limited; ComponentLink10URL: https://sigma.octopart.com:443/57695431/technical_drawing/Linear-Technology-LT4363IMS-2%23PBF.pdf?src-supplier=Linear+Technology; ComponentLink10Description: https://sigma.octopart.com:443/57695431/technical_drawing/Linear-Technology-LT4363IMS-2%23PBF.pdf?src-supplier=Linear+Technology; ComponentLink11URL: https://datasheet.octopart.com:443/LT4363IMS-2%23PBF-Linear-Technology-datasheet-11557070.pdf?src-supplier=Arrow+Electronics; ComponentLink11Description: https://datasheet.octopart.com:443/LT4363IMS-2%23PBF-Linear-Technology-datasheet-11557070.pdf?src-supplier=Arrow+Electronics; ComponentLink12URL: https://datasheet.octopart.com:443/LT4363IMS-2%23PBF-Linear-Technology-datasheet-10915746.pdf?src-supplier=Farnell; ComponentLink12Description: https://datasheet.octopart.com:443/LT4363IMS-2%23PBF-Linear-Technology-datasheet-10915746.pdf?src-supplier=Farnell; ComponentLink13URL: https://datasheet.octopart.com:443/LT4363IMS-2%23PBF-Linear-Technology-datasheet-10704508.pdf?src-supplier=Component+Distributors+Inc.; ComponentLink13Description: https://datasheet.octopart.com:443/LT4363IMS-2%23PBF-Linear-Technology-datasheet-10704508.pdf?src-supplier=Component+Distributors+Inc.; ComponentLink14URL: https://octopart.com:443/opatz8j6/c1?t=ov3Kxoe_DC7fAzVY9nj0-62S96ULmO_6ZbMSPat3xYGpsnqzj5canMsxfoRN1ZRc_18gTD_GsfnKt9q-ufd8fGCuFQtTIEPt1KoRkOURSC3Oguhxm71ep0Cxh36by45lKF4SedGJb6NO9ztMtBZMWLsztLg5ZHghx9ADcRyN_CBXFw39hroyNObFrqWfVziCGXaFT18OGdeRBSZDlnW_MpVfTXUUrmwnAM1coZsA5MeT4wFdsSjiSTl4renPEe9RbKBU6R7PCV5lcK1j4lQVbinNQ__ejP83fk6F6QwqnfKsYZRM15WY3A&src-supplier=Compliance+Statements; ComponentLink14Description: https://octopart.com:443/opatz8j6/c1?t=ov3Kxoe_DC7fAzVY9nj0-62S96ULmO_6ZbMSPat3xYGpsnqzj5canMsxfoRN1ZRc_18gTD_GsfnKt9q-ufd8fGCuFQtTIEPt1KoRkOURSC3Oguhxm71ep0Cxh36by45lKF4SedGJb6NO9ztMtBZMWLsztLg5ZHghx9ADcRyN_CBXFw39hroyNObFrqWfVziCGXaFT18OGdeRBSZDlnW_MpVfTXUUrmwnAM1coZsA5MeT4wFdsSjiSTl4renPEe9RbKBU6R7PCV5lcK1j4lQVbinNQ__ejP83fk6F6QwqnfKsYZRM15WY3A&src-supplier=Compliance+Statements
footprint MSOP-12 (LT4363IMS-2#PBF)
pins: 1 FB, 2 OUT, 3 SNS, 4 GATE, 5 VCC, 6 SHDN, 7 OV, 8 UV, 9 GND, 10 FLT, 11 ENOUT, 12 TMR

## LTC4359IMS8#PBF
designator U?  (value not drawn)
OR Controller N-Channel Single Automotive 8-Pin MSOP Tube / IC OR CTRLR N+1 8MSOP; Manufacturer: Analog Devices; Manufacturer Lifecycle Status: PRODUCTION; Max Output current: 180mA; Max Supply Voltage: 80V; Min Supply Voltage: 4V; Nominal Supply Current: 150µA; Number of Drivers: 1; Turn-Off Delay Time: 500ns; Supplier: Farnell; Supplier Part Number: LTC4359IMS8#PBF; Manufacturer Part Number: LTC4359IMS8#PBF; RoHS: Compliant; Category: Hot Swap Controllers; Stock: 348; Pricing: 1=9,08, 10=7,02, 50=6,69, 100=5,8, 250=5,55, 500=5,44 (EUR); Case/Package: MSOP; Lead Free: Lead Free; Lifecycle Status: Production; Max Operating Temperature: 85°C; Min Operating Temperature: -40°C; Number of Outputs: 1; Pins: 8; Schedule B: 8542310000, 8542390000, 8542390000|8542390000|8542390000|8542390000|8542390000|8542390000|8542390000|8542390000|8542390000|8542390000|8542390000|8542390000|8542390000|8542390000|8542390000|8542390000|8542390000|8542390000|8542390000|8542390000|8542390000|8542390000|8542390000|85; ComponentLink1URL: https://octopart.com:443/opatz8j6/c1?t=_P40TfJSJXDZt56jomm_QCaV2W9ovGhsmmsOr-jhAwoCJ8nBLABmPJZhMtd9jjF5hxL1_00-h1PSZMWNgisxjLor_nTRai5VSPSv7C30GKc6fB5Irl3JnoxXP6guWu3apPr0PFiiVpLUoXbJVRp6NFZQZkSSQtA-ym9nyDkwm4hFZ6aPWkuTkGMSIQRbKLFRiG3TpYClyGIEk8cre1-RNpxUfVtqVrzznXBdFvjW7k8HJfomxoh2QY9RslEN6MsN_sQCc8xlBgnroxPUy_RknD4svorm-bCFLp_eYvwDcJ65KenarPCoDA&src-supplier=Analog+Devices; ComponentLink1Description: https://octopart.com:443/opatz8j6/c1?t=_P40TfJSJXDZt56jomm_QCaV2W9ovGhsmmsOr-jhAwoCJ8nBLABmPJZhMtd9jjF5hxL1_00-h1PSZMWNgisxjLor_nTRai5VSPSv7C30GKc6fB5Irl3JnoxXP6guWu3apPr0PFiiVpLUoXbJVRp6NFZQZkSSQtA-ym9nyDkwm4hFZ6aPWkuTkGMSIQRbKLFRiG3TpYClyGIEk8cre1-RNpxUfVtqVrzznXBdFvjW7k8HJfomxoh2QY9RslEN6MsN_sQCc8xlBgnroxPUy_RknD4svorm-bCFLp_eYvwDcJ65KenarPCoDA&src-supplier=Analog+Devices; ComponentLink2URL: https://datasheet.octopart.com:443/LTC4359IMS8%23PBF-Analog-Devices-datasheet-140795748.pdf?src-supplier=element14+APAC; ComponentLink2Description: https://datasheet.octopart.com:443/LTC4359IMS8%23PBF-Analog-Devices-datasheet-140795748.pdf?src-supplier=element14+APAC; ComponentLink3URL: https://datasheet.octopart.com:443/LTC4359IMS8%23PBF-Analog-Devices-datasheet-158590489.pdf?src-supplier=Augswan; ComponentLink3Description: https://datasheet.octopart.com:443/LTC4359IMS8%23PBF-Analog-Devices-datasheet-158590489.pdf?src-supplier=Augswan; ComponentLink4URL: https://datasheet.octopart.com:443/LTC4359IMS8%23PBF-Linear-Technology-datasheet-57717354.pdf?src-supplier=Linear+Technology; ComponentLink4Description: https://datasheet.octopart.com:443/LTC4359IMS8%23PBF-Linear-Technology-datasheet-57717354.pdf?src-supplier=Linear+Technology; ComponentLink5URL: https://sigma.octopart.com:443/57689691/technical_drawing/Linear-Technology-LTC4359IMS8%23PBF.pdf?src-supplier=Linear+Technology; ComponentLink5Description: https://sigma.octopart.com:443/57689691/technical_drawing/Linear-Technology-LTC4359IMS8%23PBF.pdf?src-supplier=Linear+Technology; ComponentLink6URL: https://datasheet.octopart.com:443/LTC4359IMS8%23PBF-Linear-Technology-datasheet-11773680.pdf?src-supplier=Arrow+Electronics; ComponentLink6Description: https://datasheet.octopart.com:443/LTC4359IMS8%23PBF-Linear-Technology-datasheet-11773680.pdf?src-supplier=Arrow+Electronics; ComponentLink7URL: https://datasheet.octopart.com:443/LTC4359IMS8%23PBF-Analog-Devices-datasheet-14357927.pdf?src-supplier=Newchip+Electronics+Limited; ComponentLink7Description: https://datasheet.octopart.com:443/LTC4359IMS8%23PBF-Analog-Devices-datasheet-14357927.pdf?src-supplier=Newchip+Electronics+Limited; ComponentLink8URL: http://sigma.octopart.com:80/conflict_mineral_statement/Analog-Devices-company-33.pdf?src-supplier=Compliance+Statements; ComponentLink8Description: http://sigma.octopart.com:80/conflict_mineral_statement/Analog-Devices-company-33.pdf?src-supplier=Compliance+Statements; ComponentLink9URL: https://octopart.com:443/opatz8j6/c1?t=XMv486en4cgRczUhByXESygA7tzcWfPA65o52ghxq4CXCY5NS57rdy5GGbwVE8XfZyKs-Pss4HrKqDtDv8emV_VCOba_2B0i215LcHmypdXyqbKoV6hHKkyeszMd1G80nbJlVl28xOaq3ImAQwkx3MBKoeKSCRUWEeTh7O6SnaO6lulbOrhBpa7lUpYX2qexamutmNVBBP7Kuf_BfwVA6xNgWJaaLpoQaJnsVBxMCYgV8GT8S6w0VND9CLazxAvXxfuvXrc9_2mcoElFnkU-aAFDwJb3cbIgcdgtTW9GLMnN3gYe9mDzlQ&src-supplier=Compliance+Statements; ComponentLink9Description: https://octopart.com:443/opatz8j6/c1?t=XMv486en4cgRczUhByXESygA7tzcWfPA65o52ghxq4CXCY5NS57rdy5GGbwVE8XfZyKs-Pss4HrKqDtDv8emV_VCOba_2B0i215LcHmypdXyqbKoV6hHKkyeszMd1G80nbJlVl28xOaq3ImAQwkx3MBKoeKSCRUWEeTh7O6SnaO6lulbOrhBpa7lUpYX2qexamutmNVBBP7Kuf_BfwVA6xNgWJaaLpoQaJnsVBxMCYgV8GT8S6w0VND9CLazxAvXxfuvXrc9_2mcoElFnkU-aAFDwJb3cbIgcdgtTW9GLMnN3gYe9mDzlQ&src-supplier=Compliance+Statements
footprint MSOP-8 (LTC4359IMS8#PBF)
pins: 1 GATE, 2 SOURCE, 3 NC, 4 IN, 5 SHDN, 6 VSS, 7 NC, 8 OUT

## Net-Tie
designator NT?  (value not drawn)  (net tie, no BOM)
footprint Net-Tie
pins: 1, 2